# EAGLE library part DS3231ST&R (library power8)
DS3231 RTC IC only, 16 pins Source: https://www.digikey.com/en/products/detail/maxim-integrated/DS3231SN-T-R/1197577?s=N4IgTCBcDaICIGUDMYkEYEDkDEAVAZAEoDCuAtJnCALoC%2BQA Part #: DS3231SN#T&RCT-ND
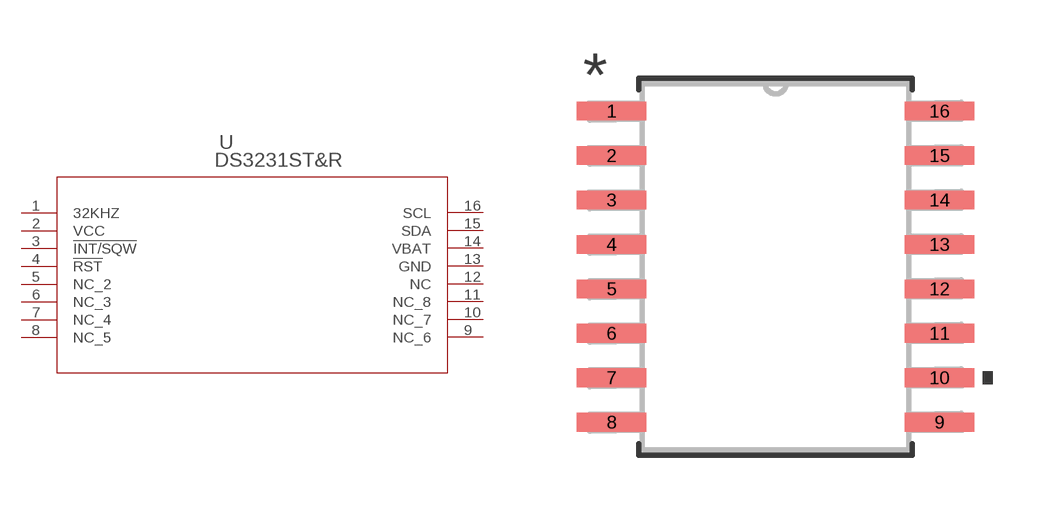
[diagram p0: symbol with the pads of 21-0042B_16; footprint 21-0042B_16]

Designator prefix U

## DS3231ST&R (MANUFACTURER_PART_NUMBER: DS3231S#T&R; VENDOR: Maxim Integrated Products)  [21-0042B_16]
1  32KHZ  pas
2  VCC  pwr
3  !INT/SQW  pas
4  !RST  pas
5  NC_2  pas
6  NC_3  pas
7  NC_4  pas
8  NC_5  pas
9  NC_6  pas
10  NC_7  pas
11  NC_8  pas
12  NC  pas
13  GND  pwr
14  VBAT  pwr
15  SDA  pas
16  SCL  pas

## Footprint 21-0042B_16 (pad centres in mm)
smd 1.981 x 0.533: 1 -4.686,4.445; 2 -4.686,3.175; 3 -4.686,1.905; 4 -4.686,0.635; 5 -4.686,-0.635; 6 -4.686,-1.905; 7 -4.686,-3.175; 8 -4.686,-4.445; 9 4.686,-4.445; 10 4.686,-3.175; 11 4.686,-1.905; 12 4.686,-0.635; 13 4.686,0.635; 14 4.686,1.905; 15 4.686,3.175; 16 4.686,4.445